# EAGLE library part HCPL2400 (library optocoupler)
HEWLETT PACKARD OPTO COUPLER
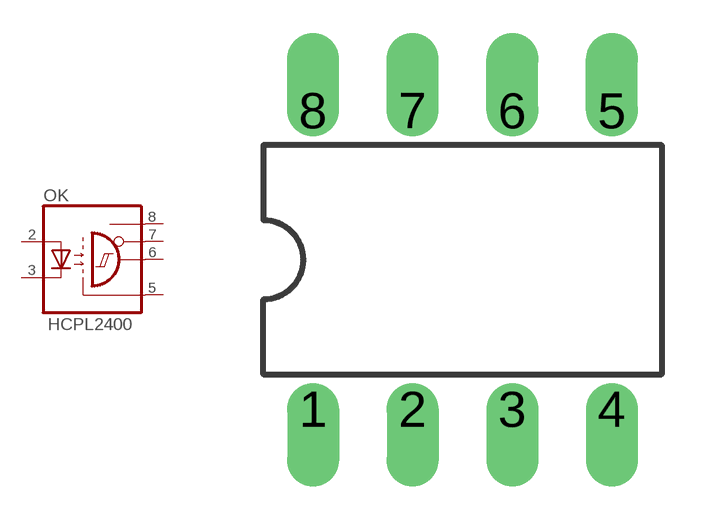
[diagram p31: symbol with the pads of DIL08; footprint DIL08]

Designator prefix OK

## HCPL2400 (MF: AGILENT TECHNOLOGIES; MPN: HCPL-2400-000E; OC_FARNELL: 9994874; OC_NEWARK: 31K6968)  [DIL08]
2  A  pas
3  C  pas
5  GND  pas
6  VO  pas
7  VE  pas
8  VCC  pas

## Footprint DIL08 (pad centres in mm)
Dual In Line Package
drill 0.813 offset: 1 -3.81,-3.81; 2 -1.27,-3.81; 3 1.27,-3.81; 4 3.81,-3.81; 5 3.81,3.81; 6 1.27,3.81; 7 -1.27,3.81; 8 -3.81,3.81